# Altium integrated library ATMega32U2.IntLib: 1 symbol
Pins are listed as number, name and electrical type; pins without a type are passive.

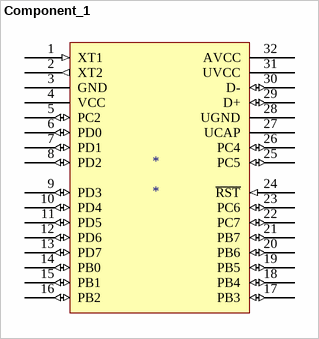
[diagram p0: symbol Component_1]

## Component_1
designator *
footprint ATMega32U2
pins: 1 XT1 (in), 2 XT2 (out), 3 GND (power), 4 VCC, 5 PC2 (io), 6 PD0 (io), 7 PD1 (io), 8 PD2 (io), 9 PD3 (io), 10 PD4 (io), 11 PD5 (io), 12 PD6 (io), 13 PD7 (io), 14 PB0 (io), 15 PB1 (io), 16 PB2 (io), 17 PB3 (io), 18 PB4 (io), 19 PB5 (io), 20 PB6 (io), 21 PB7 (io), 22 PC7 (io), 23 PC6 (io), 24 ~{RST} (in), 25 PC5 (io), 26 PC4 (io), 27 UCAP, 28 UGND (power), 29 D+ (io), 30 D- (io), 31 UVCC (power), 32 AVCC (power)